# EAGLE library part BGM113-DROPIN (library jetney-silabs-modules)
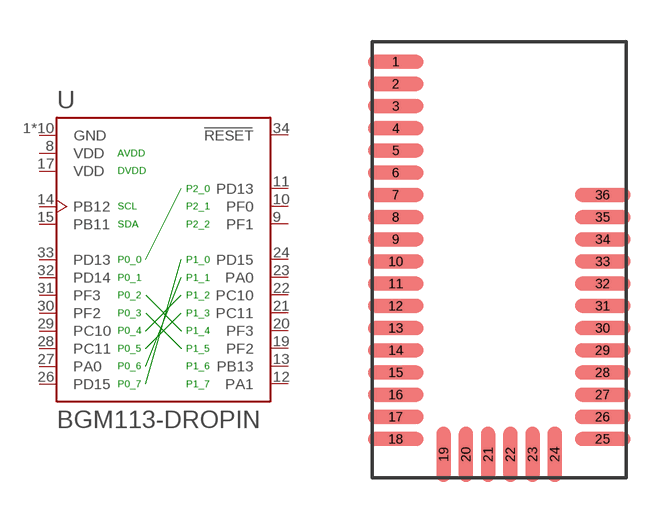
[diagram p28: symbol with the pads of BLE113-A; footprint BLE113-A]

Designator prefix U

## BGM113-DROPIN  [BLE113-A]
1  GND  pwr
2  GND  pwr
3  GND  pwr
4  GND  pwr
5  GND  pwr
6  GND  pwr
7  GND  pwr
8  VDD  pwr
9  PF1
10  PF0
11  PD13
12  PA1
13  PB13
14  PB12
15  PB11
17  VDD  pwr
18  GND  pwr
19  PF2
20  PF3
21  PC11
22  PC10
23  PA0
24  PD15
25  GND  pwr
26  PD15
27  PA0
28  PC11
29  PC10
30  PF2
31  PF3
32  PD14
33  PD13
34  RESET  in
36  GND  pwr

## Footprint BLE113-A (pad centres in mm)
BLE113-A/BGM113-A Bluetooth Smart Module package PCB LAYOUT NOTE: The BLE113-A/BGM113-A variant has an on-module ceramic chip antenna, and the package includes required keepout/restrict area. The antenna edge of the module should be flush up against the edge of the PCB. See datasheet for variant layout details. Source: http://www.silabs.com/products/wireless/bluetooth/bluetooth-low-energy-modules/ble113-bluetooth-smart-module Source: http://www.silabs.com/products/wireless/bluetooth/bluetooth-low-energy-modules/bgm113-bluetooth-low-energy-module EAGLE package created by Jeff Rowberg for Jetney Development at https://www.jetney.com Latest version maintained at https://github.com/jetney/jetney-eagle-libraries (jetney-silabs-modules.lbr) Last updated 2017-07-08
smd 2 x 0.5: 1 -3.725,7.138; 2 -3.725,6.338; 3 -3.725,5.537; 4 -3.725,4.737; 5 -3.725,3.938; 6 -3.725,3.138; 7 -3.725,2.337; 8 -3.725,1.538; 9 -3.725,0.738; 10 -3.725,-0.062; 11 -3.725,-0.863; 12 -3.725,-1.663; 13 -3.725,-2.462; 14 -3.725,-3.263; 15 -3.725,-4.062; 16 -3.725,-4.862; 17 -3.725,-5.662; 18 -3.725,-6.463; 25 3.725,-6.463; 26 3.725,-5.662; 27 3.725,-4.862; 28 3.725,-4.062; 29 3.725,-3.263; 30 3.725,-2.462; 31 3.725,-1.663; 32 3.725,-0.863; 33 3.725,-0.062; 34 3.725,0.738; 35 3.725,1.538; 36 3.725,2.337
smd 0.5 x 2: 19 -2,-7.013; 20 -1.2,-7.013; 21 -0.4,-7.013; 22 0.4,-7.013; 23 1.2,-7.013; 24 2,-7.013